# Altium footprint library SENSOR.PcbLib: 86 footprints (part 2 of 6)
Each footprint in its own frame and in the unit in brackets; x right, y up, seen from the top. Pads: shape width x height; smd on the part's side, far side on the other; paste and mask are expansions set on the pad; w line width, h text height; cw(c..) or ccw(c..) is an arc to the next point about the centre after c.
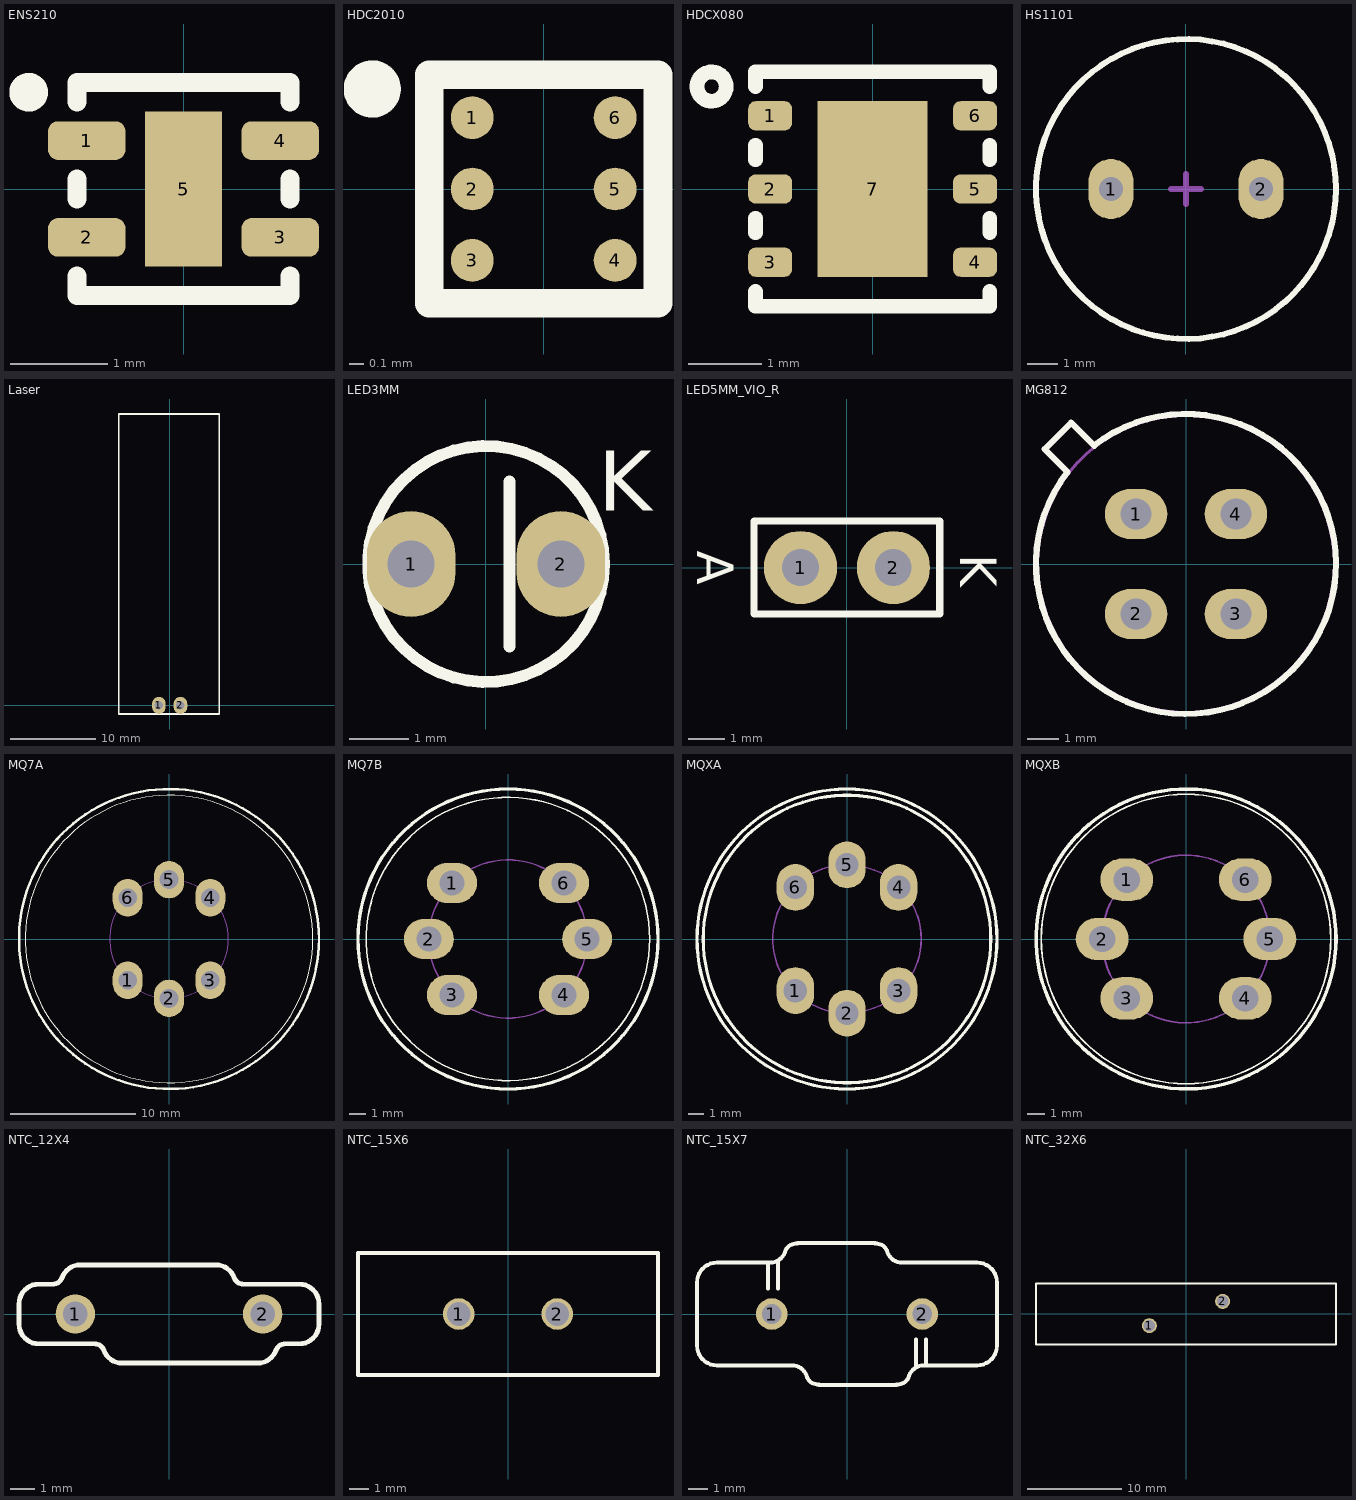
[diagram p1: the footprints below, top view; thin cyan lines are the x and y axes]

## ENS210 [mm] "SCIOSENSE ENS210 humidity and temp sensor 2X2x0.75mm"
height 0.75
pads (5):
  rrect50% 0.8x0.4 smd paste-0.05 mask+0.075: 1(-1,0.5) 2(-1,-0.5) 3(1,-0.5) 4(1,0.5)
  rect 0.8x1.6 smd mask+0.075: 5(0,0)
Top Overlay:
  circle w0.2: c-1.6,1 r0.1
  lines w0.2: -1.1,-0.9 -1.1,-1.1 1.1,-1.1 1.1,-0.9 ; -1.1,-0.1 -1.1,0.1 ; -1.1,0.9 -1.1,1.1 1.1,1.1 1.1,0.9 ; 1.1,-0.1 1.1,0.1
3D body "ens210.step": height 0.7, standoff -0.02, extent -1,-1 1,1

## HDC2010 [mm] "TexasInstruments HDC2010 humidity and temp sensor 1.5X1.5x0.7mm"
height 0.7
pads (6):
  round 0.3 smd paste-0.025 mask+0.075: 1(-0.5,0.5) 2(-0.5,0) 3(-0.5,-0.5) 4(0.5,-0.5) 5(0.5,0) 6(0.5,0.5)
Top Overlay:
  circle w0.2: c-1.2,0.7 r0.1
  lines w0.2: -0.8,-0.8 0.8,-0.8 0.8,0.8 -0.8,0.8 -0.8,-0.8
3D body "HDC2010.STEP": height 0.67, standoff 0, extent -0.731,-0.73 0.729,0.73

## HDCX080 [mm] "TexasInstruments HDCx080 humidity and temp sensor 3X3x0.8mm"
height 0.8
pads (7):
  rrect50% 0.6x0.4 smd paste-0.05 mask+0.075: 1(-1.4,1) 2(-1.4,0) 3(-1.4,-1) 4(1.4,-1) 5(1.4,0) 6(1.4,1)
  rect 1.5x2.4 smd paste-0.05 mask+0.075: 7(0,0)
Top Overlay:
  circle w0.2: c-2.2,1.4 r0.2
  lines w0.2: -1.6,-1.4 -1.6,-1.6 1.6,-1.6 1.6,-1.4 ; -1.6,-0.6 -1.6,-0.4 ; -1.6,0.4 -1.6,0.6 ; -1.6,1.4 -1.6,1.6 1.6,1.6 1.6,1.4 ; 1.6,-0.6 1.6,-0.4 ; 1.6,0.4 1.6,0.6
3D body "HDC1080.step": height 0.8, standoff 0, extent -1.55,-1.5 1.55,1.5

## HS1101 [mm] "HUMIDITY SENSOR"
height 6
pads (2):
  oval 1.5x2 hole 0.8: 1(-2.5,0) 2(2.5,0)
Top Overlay:
  circle w0.2: c0,0 r5
Mechanical 13:
  lines w0.2: -0.5,0 0.5,0 ; 0,-0.5 0,0.5
3D body: height 0.4, standoff -5, extent 2.252,-0.249 2.75,0.25
3D body: height 0.4, standoff -5, extent -2.748,-0.249 -2.25,0.25
3D body: height 0.4, standoff 0.3, extent 0,0 5.05,5.05
3D body: height 0.4, standoff 0.3, extent 0,-5.05 5.05,0
3D body: height 0.4, standoff 0.3, extent -5.05,-5.05 0,0
3D body: height 0.4, standoff 0.3, extent -5.05,0 0,5.05
3D body: height 0.4, standoff 0.3, extent -4.9,-4.899 4.9,4.899
3D body: height 0.3, standoff 0, extent -5,-1.5 -4.5,0
3D body: height 2, standoff 0.4, extent -5,-4.998 5,4.999
3D body: height 6, standoff 0.4, extent -4.8,-4.799 4.8,4.799
3D body: height 3, standoff 2.5, extent -5,-4.998 5,4.999
3D body: height 4, standoff 3.5, extent -5,-4.998 5,4.999
3D body: height 5, standoff 4.5, extent -5,-4.998 5,4.999
3D body: height 6.2, standoff 5.5, extent -5,-4.998 5,4.999
3D body: height 0.3, standoff 0, extent -5,0 -4.5,1.5
3D body: height 0.3, standoff 0, extent -1.5,-5 0,-4.5
3D body: height 0.3, standoff 0, extent 0,-5 1.5,-4.5
3D body: height 0.3, standoff 0, extent 4.5,-1.5 5,0
3D body: height 0.3, standoff 0, extent 4.5,0 5,1.5
3D body: height 0.3, standoff 0, extent 0.1,4.5 1.6,5
3D body: height 0.3, standoff 0, extent -1.4,4.5 0.1,5

## Laser [mm] "Laser small bronze head (red)"
pads (2):
  oval 1.6x2 hole 1: 1(-1.27,0) 2(1.27,0)
Top Overlay:
  lines w0.2: -6,-1.016 5.842,-1.016 5.842,34.27 -6,34.27 -6,-1.016
3D body: height 6.13, standoff 5.87, extent -0.127,29.464 0.126,54.864
3D body "laser.STEP": height 12, standoff 0, extent -6,1.27 6,36.47

## LED3MM [mm] "LED THD 3MM"
pads (2):
  oval 1.5x1.8 hole 0.8: 1(-1.27,0) 2(1.27,0)
Top Overlay:
  circle w0.2: c0,0 r2
  lines w0.2: 0.4,-1.4 0.4,1.4
  text "K" at 1.9,0.9 h1.02
3D body "CircuitWorks-LED DIP 3MM.step": height 6.5, standoff -2, extent -1.895,-1.9 1.6,1.9

## LED5MM_VIO_R [mm] "LED THD 5MM VIOLET"
height 10
pads (2):
  round 2 hole 1: 1(-1.27,0) 2(1.27,0)
Top Overlay:
  lines w0.2: -2.54,-1.27 -2.54,1.27 2.54,1.27 2.54,-1.27 -2.54,-1.27
  text "K" at 3.101,0.363 h1
  text "A" at -4.099,0.463 h1
3D body "ir5.step": height 11.01, standoff 4.99, extent -2.475,-0.25 2.945,12.963
3D body "User Library-RM254_2pin.STEP": height 6.12, standoff -3, extent -2.575,-1.24 2.505,1.3

## MG812 [mm] "Sensor GAS, 9.4mm Diameter"
pads (4):
  oval 2x1.6 hole 1: 1(-1.6,1.6) 2(-1.6,-1.6) 3(1.6,-1.6) 4(1.6,1.6)
Top Overlay:
  lines w0.2: -3.791,2.944 ccw(c0,0) -2.942,3.793 ; -3.788,2.94 -4.525,3.677 -3.677,4.525 -2.936,3.784
Mechanical 1:
  circle w0.1: c0,0 r4.75
3D body: height 0.5, standoff 0, extent -4.699,-4.7 4.699,4.7
3D body: height 8, standoff 0, extent -3.999,-4 3.999,4
3D body: height -4, standoff -10, extent 1,-2 2,-1
3D body: height -4, standoff -10, extent 1,1 2,2
3D body: height -4, standoff -10, extent -2,1 -1,2
3D body: height -4, standoff -10, extent -2,-2 -1,-1
3D body: height 0.5, standoff 0, extent -4.384,2.796 -2.796,4.384

## MQ7A [mm] "Sensor GAS, 23.8mm Diameter"
pads (6):
  oval 2.4x3 hole 1.5: 1(-3.3,-3.3) 2(0,-4.75) 3(3.3,-3.3) 4(3.3,3.3) 5(0,4.75) 6(-3.3,3.3)
Top Overlay:
  circle w0.2: c0,0 r12
  circle w0.1: c0,0 r11.5
Mechanical 1:
  circle w0.1: c0,0 r4.75
3D body: height 6, standoff 0, extent -11.9,-11.897 11.9,11.897
3D body: height 1, standoff -5, extent -3.8,2.8 -2.8,3.8
3D body: height 1, standoff -5, extent -0.5,4.25 0.5,5.25
3D body: height 1, standoff -5, extent 2.8,2.8 3.8,3.8
3D body: height 1, standoff -5, extent 2.8,-3.8 3.8,-2.8
3D body: height 1, standoff -5, extent -0.5,-5.25 0.5,-4.25
3D body: height 1, standoff -5, extent -3.8,-3.8 -2.8,-2.8
3D body: height 18, standoff 6, extent -10.7,-10.697 10.7,10.697
3D body: height 24, standoff 18, extent -11.9,-11.897 11.9,11.897

## MQ7B [mm] "Sensor GAS, 17.8mm Diameter"
height 10
pads (6):
  oval 3x2.4 hole 1.5: 1(-3.359,3.359) 2(-4.75,0) 3(-3.359,-3.359) 4(3.359,-3.359) 5(4.75,0) 6(3.359,3.359)
Top Overlay:
  circle w0.2: c0,0 r9
  circle w0.1: c0,0 r8.5
Mechanical 1:
  circle w0.1: c0,0 r4.75
3D body: height 1, standoff -5, extent -3.8,-3.8 -2.8,-2.8
3D body: height 1, standoff -5, extent -5.25,-0.5 -4.25,0.5
3D body: height 1, standoff -5, extent -3.8,2.8 -2.8,3.8
3D body: height 1, standoff -5, extent 2.8,2.8 3.8,3.8
3D body: height 1, standoff -5, extent 4.25,-0.5 5.25,0.5
3D body: height 1, standoff -5, extent 2.8,-3.8 3.8,-2.8
3D body: height 10, standoff 0, extent -8.898,-8.9 8.897,8.9

## MQXA [mm] "Sensor GAS, 19mm Diameter"
pads (6):
  oval 2.4x3 hole 1.5: 1(-3.3,-3.3) 2(0,-4.75) 3(3.3,-3.3) 4(3.3,3.3) 5(0,4.75) 6(-3.3,3.3)
Top Overlay:
  circle w0.2: c0,0 r9.6
  circle w0.2: c0,0 r9.2
Mechanical 1:
  circle w0.1: c0,0 r4.75
3D body: height 1, standoff -5, extent -3.8,2.8 -2.8,3.8
3D body: height 1, standoff -5, extent -0.5,4.25 0.5,5.25
3D body: height 1, standoff -5, extent 2.8,2.8 3.8,3.8
3D body: height 1, standoff -5, extent 2.8,-3.8 3.8,-2.8
3D body: height 1, standoff -5, extent -0.5,-5.25 0.5,-4.25
3D body: height 1, standoff -5, extent -3.8,-3.8 -2.8,-2.8
3D body: height 16.5, standoff 6, extent -8,-7.998 8,7.998
3D body: height 6, standoff 0, extent -9.5,-9.497 9.5,9.498

## MQXB [mm] "Sensor GAS, 16.8mm Diameter"
height 10
pads (6):
  oval 3x2.4 hole 1.5: 1(-3.359,3.359) 2(-4.75,0) 3(-3.359,-3.359) 4(3.359,-3.359) 5(4.75,0) 6(3.359,3.359)
Top Overlay:
  circle w0.2: c0,0 r8.5
  circle w0.1: c0,0 r8.2
Mechanical 1:
  circle w0.1: c0,0 r4.75
3D body: height 1, standoff -5, extent -3.8,-3.8 -2.8,-2.8
3D body: height 1, standoff -5, extent -5.25,-0.5 -4.25,0.5
3D body: height 1, standoff -5, extent -3.8,2.8 -2.8,3.8
3D body: height 1, standoff -5, extent 2.8,2.8 3.8,3.8
3D body: height 1, standoff -5, extent 4.25,-0.5 5.25,0.5
3D body: height 1, standoff -5, extent 2.8,-3.8 3.8,-2.8
3D body: height 10, standoff 0, extent -8.398,-8.4 8.398,8.4

## NTC_12X4 [mm] "NTC, pitch 7.5mm, 12X4mm, S10K275"
pads (2):
  round 1.6 / inner round 1.6 / far side oval 1.6x2.4 hole 1: 1(-3.81,0) 2(3.81,0)
Top Overlay:
  lines w0.2: -6.1,-0.41 ccw(c-5.3,-0.41) -5.3,-1.21 -3.6,-1.21 -3.028,-1.21 cw(c-3.028,-1.61) -2.652,-1.474 ccw(c-1.9,-1.2) -1.9,-2 3.6,-2 ccw(c3.6,-1.2) 4.352,-1.474 cw(c4.728,-1.61) 4.728,-1.21 5.3,-1.21 ccw(c5.3,-0.41) 6.1,-0.41 6.1,0.41 ccw(c5.3,0.41) 5.3,1.21 3.6,1.21 3.028,1.21 cw(c3.028,1.61) 2.652,1.474 ccw(c1.9,1.2) 1.9,2 -3.6,2 ccw(c-3.6,1.2) -4.352,1.474 cw(c-4.728,1.61) -4.728,1.21 -5.3,1.21 ccw(c-5.3,0.41) -6.1,0.41 -6.1,-0.41
3D body "User Library-S10K275.STEP": height 13, standoff -2.5, extent -6,-1.901 6,1.899

## NTC_15X6 [mm] "NTC, pitch 5mm, 15X6mm, B57153"
height 15
pads (2):
  round 1.6 / inner round 1.6 / far side oval 2x2.4 hole 1.2: 1(-2.5,0) 2(2.5,0)
Top Overlay:
  lines w0.2: -7.6,-3.1 -7.6,3.1 7.6,3.1 7.6,-3.1 -7.6,-3.1
3D body "NTC_B57153.step": height 21.5, standoff -10, extent -7.5,-3 7.5,3

## NTC_15X7 [mm] "NTC, pitch 7.5mm, 15X7mm, B57237"
pads (2):
  round 1.6 / inner round 1.6 / far side oval 1.6x2.4 hole 1: 1(-3.81,0) 2(3.81,0)
Top Overlay:
  lines w0.2: -4,1.3 -4,2.6 ; -3.5,1.3 -3.5,2.6 ; -1.416,-3.6 2.516,-3.6 ; -1.416,-3.569 cw(c-1.469,-2.971) -2.048,-3.126 ccw(c-2.8,-3.4) -2.8,-2.6 -6.6,-2.6 cw(c-6.6,-1.6) -7.6,-1.6 -7.6,1.6 ; 2.516,-3.569 ccw(c2.569,-2.971) 3.148,-3.126 cw(c3.9,-3.4) 3.9,-2.6 6.6,-2.6 ccw(c6.6,-1.6) 7.6,-1.6 7.6,1.6 ; 3.5,-2.6 3.5,-1.3 ; 4,-2.5 4,-1.3 ; -7.6,1.6 cw(c-6.6,1.6) -6.6,2.6 ; -7.6,1.6 cw(c-6.6,1.6) -6.6,2.6 ; -6.6,2.6 -3.9,2.6 ; -6.6,2.6 -3.9,2.6 ; -3.9,2.6 ccw(c-3.9,3.4) -3.148,3.126 ; -3.9,2.6 ccw(c-3.9,3.4) -3.148,3.126 ; -3.148,3.126 cw(c-2.569,2.971) -2.516,3.569 ccw(c-2.569,2.971) -3.148,3.126 ; 2.048,3.126 ccw(c1.469,2.971) 1.416,3.569 cw(c1.469,2.971) 2.048,3.126 ; 2.048,3.126 ccw(c2.8,3.4) 2.8,2.6 ; 2.048,3.126 ccw(c2.8,3.4) 2.8,2.6 ; 2.8,2.6 6.6,2.6 ; 2.8,2.6 6.6,2.6 ; 6.6,2.6 cw(c6.6,1.6) 7.6,1.6 ; 6.6,2.6 cw(c6.6,1.6) 7.6,1.6 ; -2.516,3.6 1.416,3.6 -2.516,3.6
3D body "User Library-B57237.step": height 22, standoff -29.98, extent -7.5,-3.5 7.5,3.5

## NTC_32X6 [mm] "NTC, pitch 7.5mm, 32X6mm, SG-405"
height 32
pads (2):
  round 1.6 / inner round 1.6 / far side oval 2x2.4 hole 1.2: 1(-3.91,-1.3) 2(3.91,1.3)
Top Overlay:
  lines w0.2: -16,-3.3 -16,3.2 16,3.2 16,-3.3 -16,-3.3
3D body "NTC_SG_405.step": height 32.87, standoff -27, extent -15.875,-3.15 15.875,3.15